# EAGLE library part MIC2027-2B (library micrel)
Quad USB Power Distribution Switch
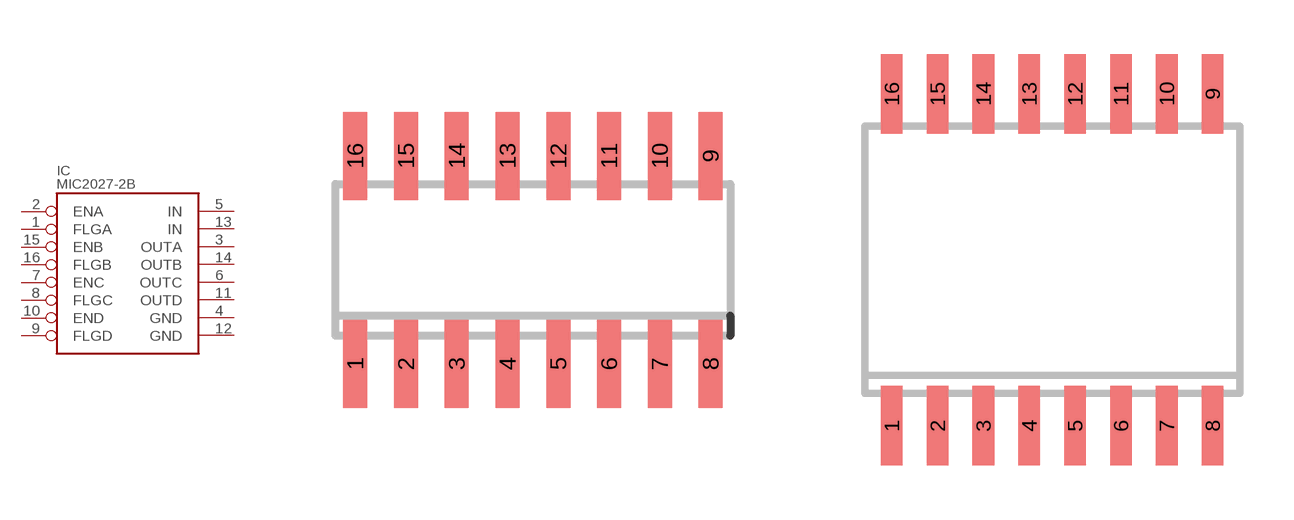
[diagram p10: symbol with the pads of SO16; footprints SO16, SO16W]

Designator prefix IC

## MIC2027-2BM  [SO16]
1  FLGA  oc
2  ENA  in
3  OUTA  out
4  GND  pwr
5  IN  in
6  OUTC  out
7  ENC  in
8  FLGC  oc
9  FLGD  oc
10  END  in
11  OUTD  out
12  GND  pwr
13  IN  in
14  OUTB  out
15  ENB  in
16  FLGB  oc

## MIC2027-2BWM  [SO16W]
Pads as for SO16

## Footprint SO16 (pad centres in mm)
SMALL OUTLINE INTEGRATED CIRCUIT body 3.9 mm/JEDEC MS-012AC
smd 0.6 x 2.2: 1 -4.445,-2.6; 2 -3.175,-2.6; 3 -1.905,-2.6; 4 -0.635,-2.6; 5 0.635,-2.6; 6 1.905,-2.6; 7 3.175,-2.6; 8 4.445,-2.6; 9 4.445,2.6; 10 3.175,2.6; 11 1.905,2.6; 12 0.635,2.6; 13 -0.635,2.6; 14 -1.905,2.6; 15 -3.175,2.6; 16 -4.445,2.6

## Footprint SO16W (pad centres in mm)
SMALL OUTLINE INTEGRATED CIRCUIT wide body 7.5 mm/JEDEC MS-013AA
smd 0.6 x 2.2: 1 -4.445,-4.6; 2 -3.175,-4.6; 3 -1.905,-4.6; 4 -0.635,-4.6; 5 0.635,-4.6; 6 1.905,-4.6; 7 3.175,-4.6; 8 4.445,-4.6; 9 4.445,4.6; 10 3.175,4.6; 11 1.905,4.6; 12 0.635,4.6; 13 -0.635,4.6; 14 -1.905,4.6; 15 -3.175,4.6; 16 -4.445,4.6